# Altium schematic symbol library A781MS107M1JLAS030.SchLib: 1 symbol
Pins are listed as number, name and electrical type; pins without a type are passive.

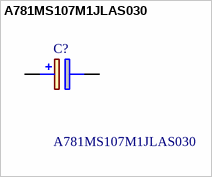
[diagram p0: symbol A781MS107M1JLAS030]

## A781MS107M1JLAS030
designator C?
A781, Aluminum, Hybrid Polymer, 100 uF, 20%, 63 VDC, -55/+135C, 135C, -55C, 135C, 2,000 Hrs, 8 % , 30 mOhms, 63 uA, 10mm, 12.2mm, 400, 52  Weeks; Manufacturer_Name: KEMET; Geometry.Height: 12.7mm; Mouser Part Number: 80-A781MS107M1JLAS30; Mouser Price/Stock: https://www.mouser.co.uk/ProductDetail/KEMET/A781MS107M1JLAS030?qs=Li%252BoUPsLEnszoAyJyuwSrg%3D%3D; Manufacturer_Part_Number: A781MS107M1JLAS030; Datasheet Link: https://content.kemet.com/datasheets/KEM_A4112_A781.pdf
footprint CAPAE1030X1270N
pins: 1 +, 2 -